# Altium footprint library CURRENT_SENS.PcbLib: 1 footprints
Each footprint in its own frame and in the unit in brackets; x right, y up, seen from the top. Pads: shape width x height; smd on the part's side, far side on the other; paste and mask are expansions set on the pad; w line width, h text height; cw(c..) or ccw(c..) is an arc to the next point about the centre after c.
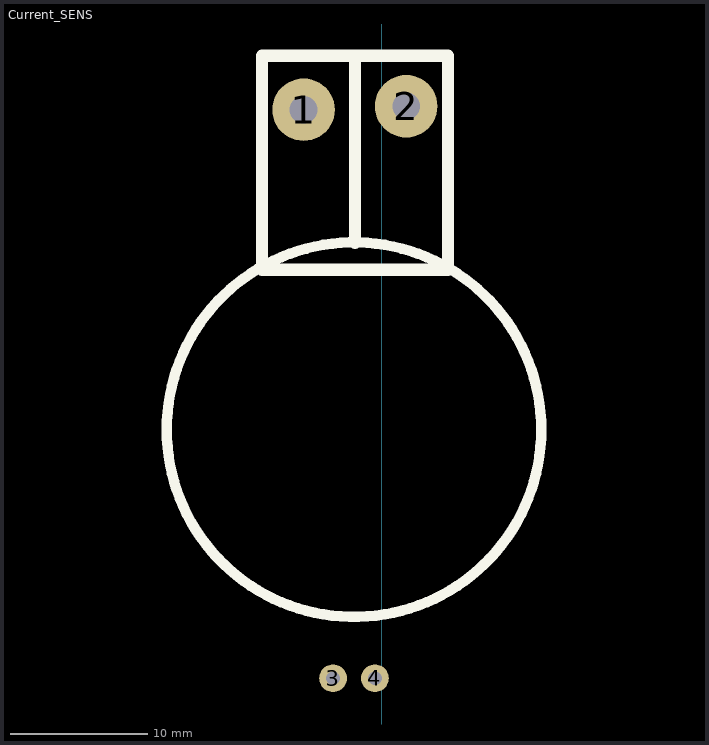
[diagram p0: the footprint, top view; thin cyan lines are the x and y axes]

## Current_SENS [mil]
pads (4):
  round 180 hole 80: 1(-225,-360) 2(70,-350)
  round 80 hole 40: 3(-140,-1995) 4(-20,-1995)
Top Overlay:
  circle w30: c-80,-1280 r538.52
  lines w35: -77.5,-742.5 -77.5,-205 ; -345,-820 190,-820 190,-205 -345,-205 -345,-820
3D body "Измеритель тока.STEP": height 264.78, standoff -565.75, extent -624.09,-2011.62 464.09,-307.42